# Altium footprint library Passives.PcbLib: 17 footprints (part 1 of 2)
Each footprint in its own frame and in the unit in brackets; x right, y up, seen from the top. Pads: shape width x height; smd on the part's side, far side on the other; paste and mask are expansions set on the pad; w line width, h text height; cw(c..) or ccw(c..) is an arc to the next point about the centre after c.
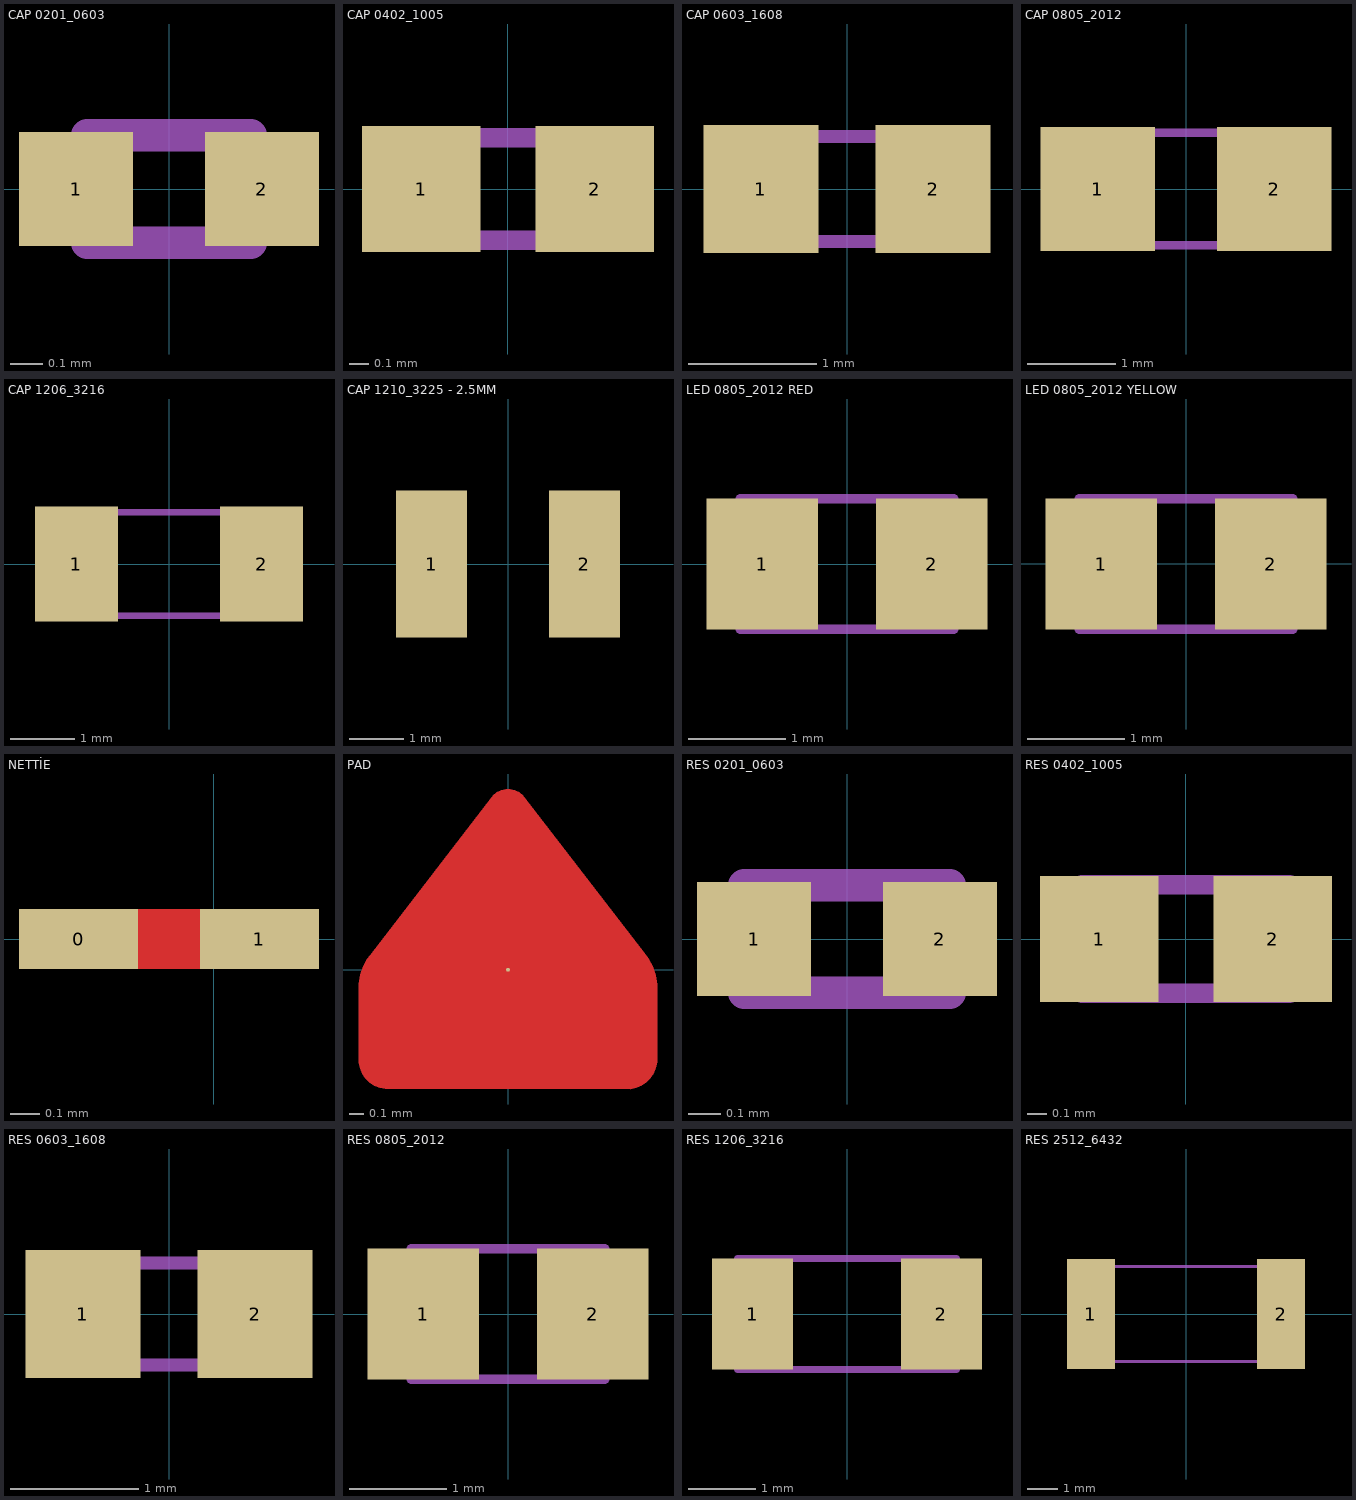
[diagram p0: the footprints below, top view; thin cyan lines are the x and y axes]

## CAP 0201_0603 [mm] "Chip Capacitor, 2-Leads, Body 0.60x0.30mm, IPC Medium Density"
height 0.33
pads (2):
  rect 0.35x0.35 smd: 1(-0.285,0) 2(0.285,0)
Mechanical 1:
  lines w0.1: -0.25,-0.165 -0.25,0.165 0.25,0.165 0.25,-0.165 -0.25,-0.165
3D body "CAP 0201.step": height 0.26, standoff 0, extent -0.25,-0.131 0.25,0.131

## CAP 0402_1005 [mm] "Chip Capacitor, 2-Leads, Body 1.02x0.51mm, IPC Medium Density"
height 0.52
pads (2):
  rect 0.6x0.64 smd: 1(-0.44,0) 2(0.44,0)
Mechanical 1:
  lines w0.1: -0.515,-0.26 -0.515,0.26 0.515,0.26 0.515,-0.26 -0.515,-0.26
3D body "0402 cap.STEP": height 0.52, standoff 0, extent -0.5,-0.262 0.5,0.262

## CAP 0603_1608 [mm] "Chip Capacitor, 2-Leads, Body 1.60x0.80mm, IPC Medium Density"
height 0.89
pads (2):
  rect 0.9x1 smd: 1(-0.675,0) 2(0.675,0)
Mechanical 1:
  lines w0.1: -0.8,-0.412 0.8,-0.412 0.8,0.412 -0.8,0.412 -0.8,-0.412
3D body "0603 cap.STEP": height 0.82, standoff 0, extent -0.8,-0.412 0.8,0.412

## CAP 0805_2012 [mm] "Chip Capacitor, 2-Leads, Body 2.00x1.20mm, IPC Medium Density"
height 1.15
pads (2):
  rect 1.3x1.4 smd: 1(-1,0) 2(1,0)
Mechanical 1:
  lines w0.1: -1,-0.637 -1,0.637 1,0.637 1,-0.637 -1,-0.637
3D body "0805 cap.STEP": height 1.26, standoff -0.02, extent -1,-0.637 1,0.637

## CAP 1206_3216 [mm] "Chip Capacitor, 2-Leads, Body 3.25x1.60mm, IPC Medium Density"
height 1.6
pads (2):
  rect 1.3x1.8 smd: 1(-1.45,0) 2(1.45,0)
Mechanical 1:
  lines w0.1: -1.6,-0.812 -1.6,0.812 1.6,0.812 1.6,-0.812 -1.6,-0.812
3D body "1206 cap.STEP": height 1.62, standoff 0, extent -1.6,-0.812 1.6,0.812

## CAP 1210_3225 - 2.5MM [mm] "Chip Capacitor, 2-Leads, Body 3.20x2.50mm, IPC Medium Density"
height 2.5
pads (2):
  rect 1.3x2.7 smd: 1(-1.4,0) 2(1.4,0)
3D body "CAP 1210-2.step": height 2.5, standoff 0, extent -1.6,-1.25 1.6,1.25

## LED 0805_2012 RED [mm] "Chip Diode, 2-Leads, Body 2.00x1.25mm, IPC Medium Density"
height 0.7
pads (2):
  rect 1.15x1.35 smd: 1(-0.875,0) 2(0.875,0)
Mechanical 1:
  lines w0.1: -1.1,-0.675 1.1,-0.675 1.1,0.675 -1.1,0.675 -1.1,-0.675
3D body "LED 0805 Base RED.STEP": height 0.4, standoff 0, extent -1,-0.625 1,0.625
3D body "LED 0805 Lens RED.STEP": height 0.91, standoff 0.31, extent -0.65,-0.625 0.65,0.625

## LED 0805_2012 YELLOW [mm] "Chip Diode, 2-Leads, Body 2.00x1.25mm, IPC Medium Density"
height 0.7
pads (2):
  rect 1.15x1.35 smd: 1(-0.875,0) 2(0.875,0)
Mechanical 1:
  lines w0.1: -1.1,-0.675 1.1,-0.675 1.1,0.675 -1.1,0.675 -1.1,-0.675
3D body "LED 0805 Base YELLOW.STEP": height 0.4, standoff 0, extent -1,-0.625 1,0.625
3D body "LED 0805 Lens YELLOW.STEP": height 0.91, standoff 0.31, extent -0.65,-0.625 0.65,0.625

## NETTİE [mm]
pads (2):
  rect 0.4x0.2 smd mask+0.102: 0(-0.454,0) 1(0.154,0)
Top Layer:
  region: 0.003,0.1 0.003,-0.1 -0.454,-0.1 -0.454,0.1

## PAD [mil]
pads (1):
  round 1 smd: 1(0,0)
Top Layer:
  region: -39.37,-23.78 -39.37,-4.87 -39.37,-3.69 -38.99,-1.37 -38.23,0.85 -37.12,2.93 -36.4,3.86 -4.29,45.6 -3.91,46.09 -2.95,46.88 -1.83,47.43 -0.62,47.71 0.62,47.71 1.83,47.43 2.95,46.88 3.91,46.09 4.29,45.6 36.32,3.97 37.05,3.01 38.2,0.88 38.98,-1.41 39.37,-3.8 39.37,-5.01 39.37,-23.64 39.37,-24.42 39.07,-25.93 38.48,-27.36 37.62,-28.65 36.52,-29.74 35.24,-30.6 33.81,-31.19 32.29,-31.5 31.52,-31.5 -31.66,-31.5 -32.42,-31.5 -33.91,-31.2 -35.31,-30.62 -36.57,-29.77 -37.65,-28.7 -38.49,-27.44 -39.07,-26.03 -39.37,-24.54

## RES 0201_0603 [mm] "Chip Resistor, 2-Leads, Body 0.60x0.30mm, IPC Medium Density"
height 0.26
pads (2):
  rect 0.35x0.35 smd: 1(-0.285,0) 2(0.285,0)
Mechanical 1:
  lines w0.1: -0.315,-0.165 0.315,-0.165 0.315,0.165 -0.315,0.165 -0.315,-0.165
3D body "RES 0201.STEP": height 0.21, standoff -0.01, extent -0.3,-0.15 0.3,0.15

## RES 0402_1005 [mm] "Chip Resistor, 2-Leads, Body 1.0x0.5mm, IPC Medium Density"
height 0.4
pads (2):
  rect 0.6x0.64 smd: 1(-0.44,0) 2(0.44,0)
Mechanical 1:
  lines w0.1: -0.525,-0.275 -0.525,0.275 0.525,0.275 0.525,-0.275 -0.525,-0.275
3D body "0402 resistor.STEP": height 0.35, standoff 0, extent -0.5,-0.25 0.5,0.25

## RES 0603_1608 [mm] "Chip Resistor, 2-Leads, Body 1.60x0.80mm, IPC Medium Density"
height 0.45
pads (2):
  rect 0.9x1 smd: 1(-0.675,0) 2(0.675,0)
Mechanical 1:
  lines w0.1: -0.8,-0.4 -0.8,0.4 0.8,0.4 0.8,-0.4 -0.8,-0.4
3D body "0603 resistor.STEP": height 0.45, standoff 0, extent -0.8,-0.4 0.8,0.4

## RES 0805_2012 [mm] "Chip Resistor, 2-Leads, Body 2.00x1.25mm, IPC Medium Density"
height 0.7
pads (2):
  rect 1.15x1.35 smd: 1(-0.875,0) 2(0.875,0)
Mechanical 1:
  lines w0.1: -1,-0.675 1,-0.675 1,0.675 -1,0.675 -1,-0.675
3D body "0805 resistor.STEP": height 0.6, standoff 0, extent -1,-0.625 1,0.625

## RES 1206_3216 [mm] "Chip Resistor, 2-Leads, Body 3.13x1.55mm, IPC Medium Density"
height 0.7
pads (2):
  rect 1.2x1.65 smd: 1(-1.4,0) 2(1.4,0)
Mechanical 1:
  lines w0.1: -1.625,-0.825 1.625,-0.825 1.625,0.825 -1.625,0.825 -1.625,-0.825
3D body "1206 resistor.STEP": height 0.6, standoff 0, extent -1.6,-0.8 1.6,0.8

## RES 2512_6432 [mm] "Chip Resistor, 2-Leads, Body 6.30x3.15mm, IPC Medium Density"
height 0.6
pads (2):
  rect 1.6x3.65 smd: 1(-3.175,0) 2(3.175,0)
Mechanical 1:
  lines w0.1: -3.149,-1.575 -3.149,1.575 3.15,1.575 3.15,1.225 3.15,-1.575 -3.149,-1.575
3D body "RES - 2512.step": height 0.7, standoff 0, extent -3.15,-1.575 3.15,1.575